# Altium footprint library J 接插件.PcbLib: 458 footprints (part 24 of 29)
Each footprint in its own frame and in the unit in brackets; x right, y up, seen from the top. Pads: shape width x height; smd on the part's side, far side on the other; paste and mask are expansions set on the pad; w line width, h text height; cw(c..) or ccw(c..) is an arc to the next point about the centre after c.
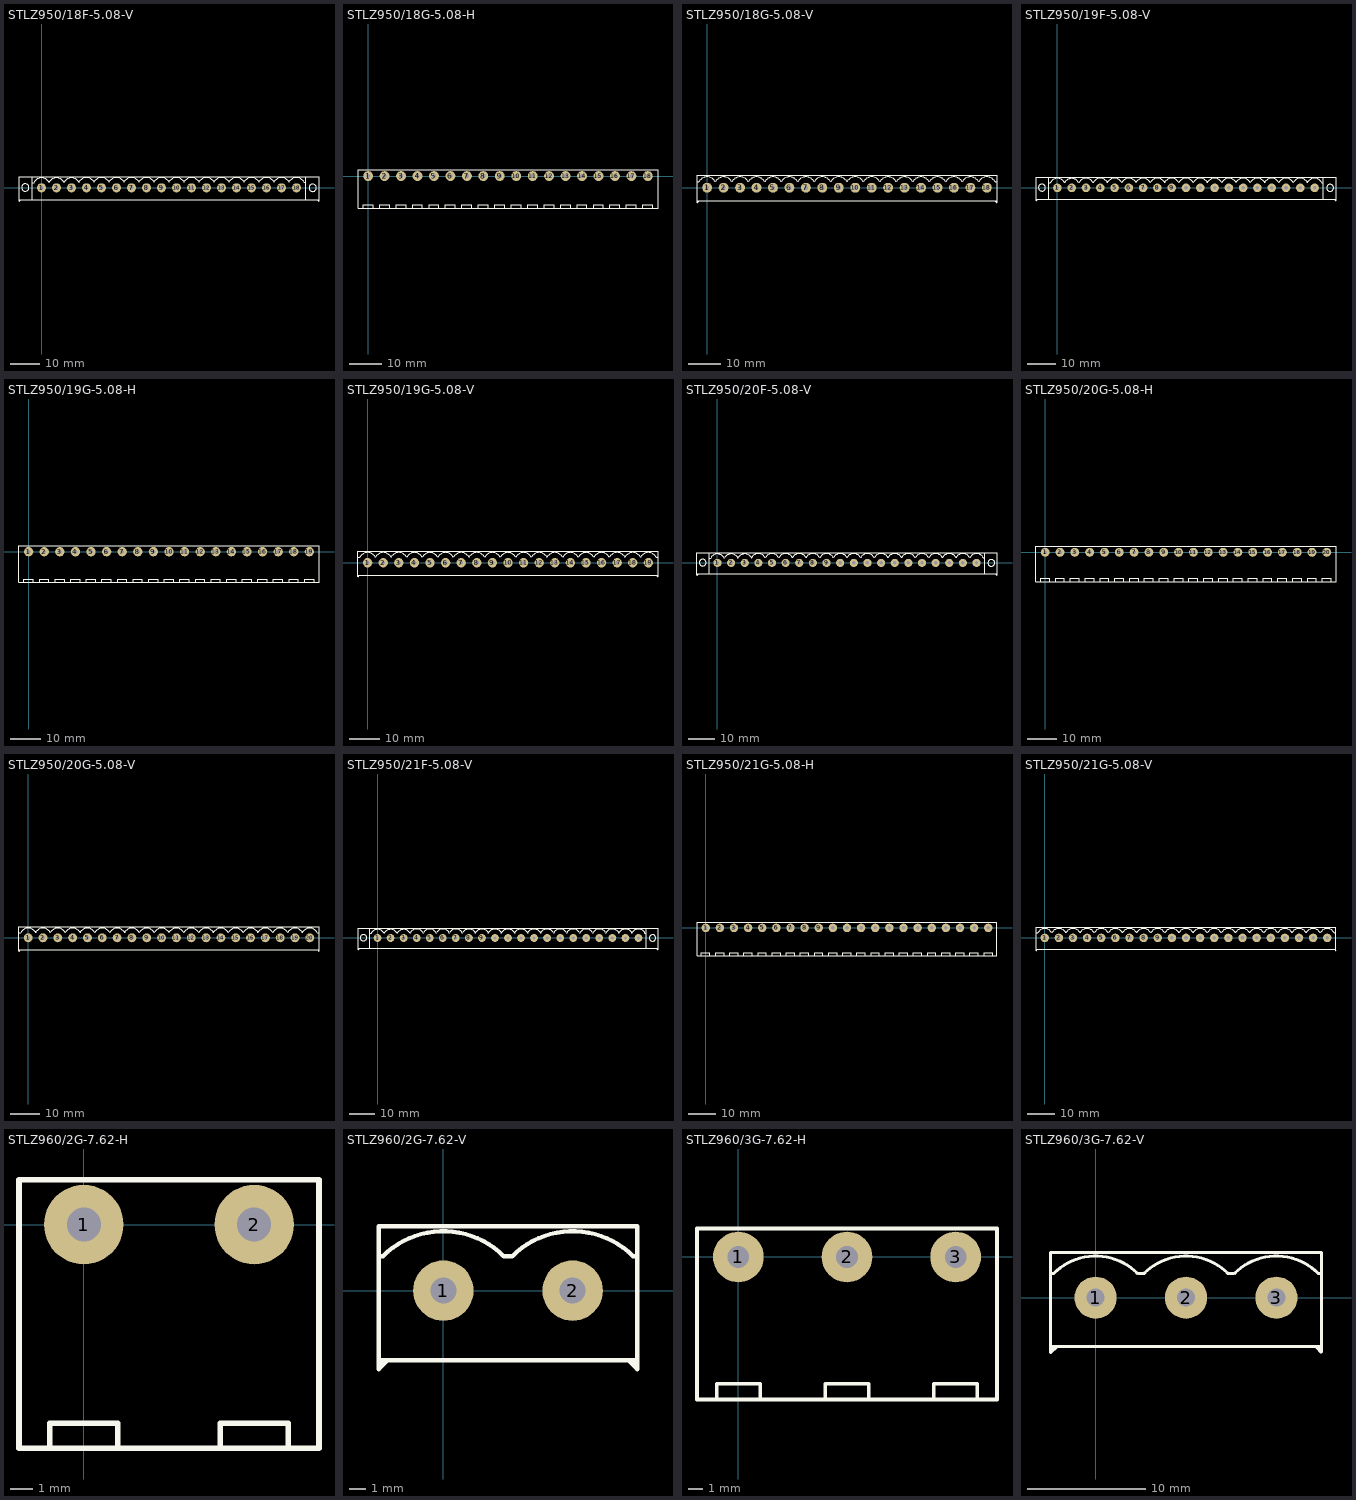
[diagram p23: the footprints below, top view; thin cyan lines are the x and y axes]

## STLZ950/18F-5.08-V [mil] "美卡诺 STLZ950 接触件座  间距：5.08   18Pin  带螺丝"
height 826.77
pads (18):
  round 120 hole 50: 1(0,0) 2(200,0) 3(400,0) 4(600,0) 5(800,0) 6(1000,0) 7(1200,0) 8(1400,0) 9(1600,0) 10(1800,0) 11(2000,0) 12(2200,0) 13(2400,0) 14(2600,0) 15(2800,0) 16(3000,0) 17(3200,0) 18(3400,0)
Top Overlay:
  circle w10: c-216.54,3.94 r49.21
  circle w10: c3616.54,0 r49.21
  lines w10: -300,-181.1 -300,149.61 3700,149.61 3700,-181.1 ; -300,-161.42 3700,-161.42 ; -299.21,-180.12 -281.99,-162.89 ; -293.31,-172.24 -293.31,-164.37 ; -123.62,-161.42 -123.62,149.61 ; -120,70 -100,70 cw(c0,20) 100,70 cw(c200,20) 300,70 cw(c400,20) 500,70 ; 500,75 cw(c600,25) 700,75 cw(c800,25) 900,75 cw(c1000,25) 1100,75 cw(c1200,25) 1300,75 cw(c1400,25) 1500,75 cw(c1600,25) 1700,75 cw(c1800,25) 1900,75 cw(c2000,25) 2100,75 cw(c2200,25) 2300,75 cw(c2400,25) 2500,75 cw(c2600,25) 2700,75 cw(c2800,25) 2900,75 cw(c3000,25) 3100,75 cw(c3200,25) 3300,75 cw(c3400,25) 3500,75 3520,75 ; 3523.62,-161.42 3523.62,149.61 ; 3682,-164 3699.22,-181.22 ; 3690,-165 3697.87,-165

## STLZ950/18G-5.08-H [mil] "美卡诺 STLZ950接触件座  间距：5.08  18Pin   弯角"
height 330.71
pads (18):
  round 120 hole 50: 1(0,0) 2(200,0) 3(400,0) 4(600,0) 5(800,0) 6(1000,0) 7(1200,0) 8(1400,0) 9(1600,0) 10(1800,0) 11(2000,0) 12(2200,0) 13(2400,0) 14(2600,0) 15(2800,0) 16(3000,0) 17(3200,0) 18(3400,0)
Top Overlay:
  lines w10: -60,-390 -60,-350 60,-350 60,-390 ; 140,-390 140,-350 260,-350 260,-390 ; 340,-390 340,-350 460,-350 460,-390 ; 540,-390 540,-350 660,-350 660,-390 ; 740,-390 740,-350 860,-350 860,-390 ; 940,-390 940,-350 1060,-350 1060,-390 ; 1140,-390 1140,-350 1260,-350 1260,-390 ; 1340,-390 1340,-350 1460,-350 1460,-390 ; 1540,-390 1540,-350 1660,-350 1660,-390 ; 1740,-390 1740,-350 1860,-350 1860,-390 ; 1940,-390 1940,-350 2060,-350 2060,-390 ; 2140,-390 2140,-350 2260,-350 2260,-390 ; 2340,-390 2340,-350 2460,-350 ; 2540,-390 2540,-350 2660,-350 2660,-390 ; 2740,-390 2740,-350 2860,-350 2860,-390 ; 2940,-390 2940,-350 3060,-350 3060,-390 ; 3140,-390 3140,-350 3260,-350 3260,-390 ; 3340,-390 3340,-350 3460,-350 3460,-390 ; 2460,-350 2460,-390 2460,-350 ; -123.62,-393.7 3523.62,-393.7 3523.62,78.74 -123.62,78.74 -123.62,-393.7

## STLZ950/18G-5.08-V [mil] "美卡诺 STLZ950 接触件座  间距：5.08   18Pin"
height 826.77
pads (18):
  round 120 hole 50: 1(0,0) 2(200,0) 3(400,0) 4(600,0) 5(800,0) 6(1000,0) 7(1200,0) 8(1400,0) 9(1600,0) 10(1800,0) 11(2000,0) 12(2200,0) 13(2400,0) 14(2600,0) 15(2800,0) 16(3000,0) 17(3200,0) 18(3400,0)
Top Overlay:
  lines w10: -123.62,-181.1 -123.62,149.61 3523.62,149.61 3523.62,-181.1 ; -123.62,-161.42 3523.62,-161.42 ; -122.05,-180.12 -104.82,-162.89 ; -120,70 -100,70 cw(c0,20) 100,70 cw(c200,20) 300,70 cw(c400,20) 500,70 cw(c600,20) 700,70 cw(c800,20) 900,70 cw(c1000,20) 1100,70 cw(c1200,20) 1300,70 cw(c1400,20) 1500,70 cw(c1600,20) 1700,70 cw(c1800,20) 1900,70 cw(c2000,20) 2100,70 cw(c2200,20) 2300,70 cw(c2400,20) 2500,70 cw(c2600,20) 2700,70 cw(c2800,20) 2900,70 cw(c3000,20) 3100,70 cw(c3200,20) 3300,70 cw(c3400,20) 3500,70 3520,70 ; -116.14,-172.24 -116.14,-164.37 ; 3503.64,-161.91 3522.83,-181.1 ; 3517.91,-171.26 3517.91,-162.4

## STLZ950/19F-5.08-V [mil] "美卡诺 STLZ950 接触件座  间距：5.08   19Pin  带螺丝"
height 826.77
pads (19):
  round 120 hole 50: 1(0,0) 2(200,0) 3(400,0) 4(600,0) 5(800,0) 6(1000,0) 7(1200,0) 8(1400,0) 9(1600,0) 10(1800,0) 11(2000,0) 12(2200,0) 13(2400,0) 14(2600,0) 15(2800,0) 16(3000,0) 17(3200,0) 18(3400,0) 19(3600,0)
Top Overlay:
  circle w10: c-216.54,3.94 r49.21
  circle w10: c3816.54,0 r49.21
  lines w10: -300,-181.1 -300,149.61 3900,149.61 3900,-181.1 ; -300,-161.42 3900,-161.42 ; -299.21,-180.12 -281.99,-162.89 ; -293.31,-172.24 -293.31,-164.37 ; -123.62,-161.42 -123.62,149.61 ; -120,70 -100,70 cw(c0,20) 100,70 cw(c200,20) 300,70 cw(c400,20) 500,70 ; 500,75 cw(c600,25) 700,75 cw(c800,25) 900,75 cw(c1000,25) 1100,75 cw(c1200,25) 1300,75 cw(c1400,25) 1500,75 cw(c1600,25) 1700,75 cw(c1800,25) 1900,75 cw(c2000,25) 2100,75 cw(c2200,25) 2300,75 cw(c2400,25) 2500,75 cw(c2600,25) 2700,75 cw(c2800,25) 2900,75 cw(c3000,25) 3100,75 cw(c3200,25) 3300,75 cw(c3400,25) 3500,75 cw(c3600,25) 3700,75 3720,75 ; 3723.62,-161.42 3723.62,149.61 ; 3882,-164 3899.22,-181.22 ; 3890,-165 3897.87,-165

## STLZ950/19G-5.08-H [mil] "美卡诺 STLZ950接触件座  间距：5.08  19Pin   弯角"
height 330.71
pads (19):
  round 120 hole 50: 1(0,0) 2(200,0) 3(400,0) 4(600,0) 5(800,0) 6(1000,0) 7(1200,0) 8(1400,0) 9(1600,0) 10(1800,0) 11(2000,0) 12(2200,0) 13(2400,0) 14(2600,0) 15(2800,0) 16(3000,0) 17(3200,0) 18(3400,0) 19(3600,0)
Top Overlay:
  lines w10: -60,-390 -60,-350 60,-350 60,-390 ; 140,-390 140,-350 260,-350 260,-390 ; 340,-390 340,-350 460,-350 460,-390 ; 540,-390 540,-350 660,-350 660,-390 ; 740,-390 740,-350 860,-350 860,-390 ; 940,-390 940,-350 1060,-350 1060,-390 ; 1140,-390 1140,-350 1260,-350 1260,-390 ; 1340,-390 1340,-350 1460,-350 1460,-390 ; 1540,-390 1540,-350 1660,-350 1660,-390 ; 1740,-390 1740,-350 1860,-350 1860,-390 ; 1940,-390 1940,-350 2060,-350 2060,-390 ; 2140,-390 2140,-350 2260,-350 2260,-390 ; 2340,-390 2340,-350 2460,-350 ; 2540,-390 2540,-350 2660,-350 2660,-390 ; 2740,-390 2740,-350 2860,-350 2860,-390 ; 2940,-390 2940,-350 3060,-350 3060,-390 ; 3140,-390 3140,-350 3260,-350 3260,-390 ; 3340,-390 3340,-350 3460,-350 3460,-390 ; 3540,-390 3540,-350 3660,-350 3660,-390 ; 2460,-350 2460,-390 2460,-350 ; -123.62,-393.7 -123.62,78.74 3723.62,78.74 3723.62,-393.7 -123.62,-393.7

## STLZ950/19G-5.08-V [mil] "美卡诺 STLZ950 接触件座  间距：5.08   19Pin"
height 826.77
pads (19):
  round 120 hole 50: 1(0,0) 2(200,0) 3(400,0) 4(600,0) 5(800,0) 6(1000,0) 7(1200,0) 8(1400,0) 9(1600,0) 10(1800,0) 11(2000,0) 12(2200,0) 13(2400,0) 14(2600,0) 15(2800,0) 16(3000,0) 17(3200,0) 18(3400,0) 19(3600,0)
Top Overlay:
  lines w10: -123.62,-181.1 -123.62,149.61 3723.62,149.61 3723.62,-181.1 ; -123.62,-161.42 3723.62,-161.42 ; -122.05,-180.12 -104.82,-162.89 ; -120,70 -100,70 cw(c0,20) 100,70 cw(c200,20) 300,70 cw(c400,20) 500,70 cw(c600,20) 700,70 cw(c800,20) 900,70 cw(c1000,20) 1100,70 cw(c1200,20) 1300,70 cw(c1400,20) 1500,70 cw(c1600,20) 1700,70 cw(c1800,20) 1900,70 cw(c2000,20) 2100,70 cw(c2200,20) 2300,70 cw(c2400,20) 2500,70 cw(c2600,20) 2700,70 cw(c2800,20) 2900,70 cw(c3000,20) 3100,70 cw(c3200,20) 3300,70 cw(c3400,20) 3500,70 cw(c3600,20) 3700,70 3720,70 ; -116.14,-172.24 -116.14,-164.37 ; 3703.64,-161.91 3722.83,-181.1 ; 3717.91,-171.26 3717.91,-162.4

## STLZ950/20F-5.08-V [mil] "美卡诺 STLZ950 接触件座  间距：5.08   20Pin  带螺丝"
height 826.77
pads (20):
  round 120 hole 50: 1(0,0) 2(200,0) 3(400,0) 4(600,0) 5(800,0) 6(1000,0) 7(1200,0) 8(1400,0) 9(1600,0) 10(1800,0) 11(2000,0) 12(2200,0) 13(2400,0) 14(2600,0) 15(2800,0) 16(3000,0) 17(3200,0) 18(3400,0) 19(3600,0) 20(3800,0)
Top Overlay:
  circle w10: c4016.54,0 r49.21
  circle w10: c-216.54,3.94 r49.21
  lines w10: -300,-181.1 -300,149.61 4100,149.61 4100,-181.1 ; -300,-161.42 4100,-161.42 ; -299.21,-180.12 -281.99,-162.89 ; -293.31,-172.24 -293.31,-164.37 ; -123.62,-161.42 -123.62,149.61 ; -120,70 -100,70 cw(c0,20) 100,70 cw(c200,20) 300,70 cw(c400,20) 500,70 ; 500,75 cw(c600,25) 700,75 cw(c800,25) 900,75 cw(c1000,25) 1100,75 cw(c1200,25) 1300,75 cw(c1400,25) 1500,75 cw(c1600,25) 1700,75 cw(c1800,25) 1900,75 cw(c2000,25) 2100,75 cw(c2200,25) 2300,75 cw(c2400,25) 2500,75 cw(c2600,25) 2700,75 cw(c2800,25) 2900,75 cw(c3000,25) 3100,75 cw(c3200,25) 3300,75 cw(c3400,25) 3500,75 cw(c3600,25) 3700,75 cw(c3800,25) 3900,75 3920,75 ; 3923.62,-161.42 3923.62,149.61 ; 4082,-164 4099.22,-181.22 ; 4090,-165 4097.87,-165

## STLZ950/20G-5.08-H [mil] "美卡诺 STLZ950接触件座  间距：5.08  20Pin   弯角"
height 330.71
pads (20):
  round 120 hole 50: 1(0,0) 2(200,0) 3(400,0) 4(600,0) 5(800,0) 6(1000,0) 7(1200,0) 8(1400,0) 9(1600,0) 10(1800,0) 11(2000,0) 12(2200,0) 13(2400,0) 14(2600,0) 15(2800,0) 16(3000,0) 17(3200,0) 18(3400,0) 19(3600,0) 20(3800,0)
Top Overlay:
  lines w10: -60,-390 -60,-350 60,-350 60,-390 ; 140,-390 140,-350 260,-350 260,-390 ; 340,-390 340,-350 460,-350 460,-390 ; 540,-390 540,-350 660,-350 660,-390 ; 740,-390 740,-350 860,-350 860,-390 ; 940,-390 940,-350 1060,-350 1060,-390 ; 1140,-390 1140,-350 1260,-350 1260,-390 ; 1340,-390 1340,-350 1460,-350 1460,-390 ; 1540,-390 1540,-350 1660,-350 1660,-390 ; 1740,-390 1740,-350 1860,-350 1860,-390 ; 1940,-390 1940,-350 2060,-350 2060,-390 ; 2140,-390 2140,-350 2260,-350 2260,-390 ; 2340,-390 2340,-350 2460,-350 ; 2540,-390 2540,-350 2660,-350 2660,-390 ; 2740,-390 2740,-350 2860,-350 2860,-390 ; 2940,-390 2940,-350 3060,-350 3060,-390 ; 3140,-390 3140,-350 3260,-350 3260,-390 ; 3340,-390 3340,-350 3460,-350 3460,-390 ; 3540,-390 3540,-350 3660,-350 3660,-390 ; 3740,-390 3740,-350 3860,-350 3860,-390 ; 2460,-350 2460,-390 2460,-350 ; -123.62,-393.7 3923.62,-393.7 3923.62,78.74 -123.62,78.74 -123.62,-393.7

## STLZ950/20G-5.08-V [mil] "美卡诺 STLZ950 接触件座  间距：5.08   20Pin"
height 826.77
pads (20):
  round 120 hole 50: 1(0,0) 2(200,0) 3(400,0) 4(600,0) 5(800,0) 6(1000,0) 7(1200,0) 8(1400,0) 9(1600,0) 10(1800,0) 11(2000,0) 12(2200,0) 13(2400,0) 14(2600,0) 15(2800,0) 16(3000,0) 17(3200,0) 18(3400,0) 19(3600,0) 20(3800,0)
Top Overlay:
  lines w10: -123.62,-181.1 -123.62,149.61 3923.62,149.61 3923.62,-181.1 ; -123.62,-161.42 3923.62,-161.42 ; -122.05,-180.12 -104.82,-162.89 ; -120,70 -100,70 cw(c0,20) 100,70 cw(c200,20) 300,70 cw(c400,20) 500,70 cw(c600,20) 700,70 cw(c800,20) 900,70 cw(c1000,20) 1100,70 cw(c1200,20) 1300,70 cw(c1400,20) 1500,70 cw(c1600,20) 1700,70 cw(c1800,20) 1900,70 cw(c2000,20) 2100,70 cw(c2200,20) 2300,70 cw(c2400,20) 2500,70 cw(c2600,20) 2700,70 cw(c2800,20) 2900,70 cw(c3000,20) 3100,70 cw(c3200,20) 3300,70 cw(c3400,20) 3500,70 cw(c3600,20) 3700,70 cw(c3800,20) 3900,70 3920,70 ; -116.14,-172.24 -116.14,-164.37 ; 3903.64,-161.91 3922.83,-181.1 ; 3917.91,-171.26 3917.91,-162.4

## STLZ950/21F-5.08-V [mil] "美卡诺 STLZ950 接触件座  间距：5.08   21Pin  带螺丝"
height 826.77
pads (21):
  round 120 hole 50: 1(0,0) 2(200,0) 3(400,0) 4(600,0) 5(800,0) 6(1000,0) 7(1200,0) 8(1400,0) 9(1600,0) 10(1800,0) 11(2000,0) 12(2200,0) 13(2400,0) 14(2600,0) 15(2800,0) 16(3000,0) 17(3200,0) 18(3400,0) 19(3600,0) 20(3800,0) 21(4000,0)
Top Overlay:
  circle w10: c-216.54,3.94 r49.21
  circle w10: c4216.54,0 r49.21
  lines w10: -300,-181.1 -300,149.61 4300,149.61 4300,-181.1 ; -300,-161.42 4300,-161.42 ; -299.21,-180.12 -281.99,-162.89 ; -293.31,-172.24 -293.31,-164.37 ; -123.62,-161.42 -123.62,149.61 ; -120,70 -100,70 cw(c0,20) 100,70 cw(c200,20) 300,70 cw(c400,20) 500,70 ; 500,75 cw(c600,25) 700,75 cw(c800,25) 900,75 cw(c1000,25) 1100,75 cw(c1200,25) 1300,75 cw(c1400,25) 1500,75 cw(c1600,25) 1700,75 cw(c1800,25) 1900,75 cw(c2000,25) 2100,75 cw(c2200,25) 2300,75 cw(c2400,25) 2500,75 cw(c2600,25) 2700,75 cw(c2800,25) 2900,75 cw(c3000,25) 3100,75 cw(c3200,25) 3300,75 cw(c3400,25) 3500,75 cw(c3600,25) 3700,75 cw(c3800,25) 3900,75 cw(c4000,25) 4100,75 4120,75 ; 4123.62,-161.42 4123.62,149.61 ; 4282,-164 4299.22,-181.22 ; 4290,-165 4297.87,-165

## STLZ950/21G-5.08-H [mil] "美卡诺 STLZ950接触件座  间距：5.08  21Pin   弯角"
height 330.71
pads (21):
  round 120 hole 50: 1(0,0) 2(200,0) 3(400,0) 4(600,0) 5(800,0) 6(1000,0) 7(1200,0) 8(1400,0) 9(1600,0) 10(1800,0) 11(2000,0) 12(2200,0) 13(2400,0) 14(2600,0) 15(2800,0) 16(3000,0) 17(3200,0) 18(3400,0) 19(3600,0) 20(3800,0) 21(4000,0)
Top Overlay:
  lines w10: -60,-390 -60,-350 60,-350 60,-390 ; 140,-390 140,-350 260,-350 260,-390 ; 340,-390 340,-350 460,-350 460,-390 ; 540,-390 540,-350 660,-350 660,-390 ; 740,-390 740,-350 860,-350 860,-390 ; 940,-390 940,-350 1060,-350 1060,-390 ; 1140,-390 1140,-350 1260,-350 1260,-390 ; 1340,-390 1340,-350 1460,-350 1460,-390 ; 1540,-390 1540,-350 1660,-350 1660,-390 ; 1740,-390 1740,-350 1860,-350 1860,-390 ; 1940,-390 1940,-350 2060,-350 2060,-390 ; 2140,-390 2140,-350 2260,-350 2260,-390 ; 2340,-390 2340,-350 2460,-350 ; 2540,-390 2540,-350 2660,-350 2660,-390 ; 2740,-390 2740,-350 2860,-350 2860,-390 ; 2940,-390 2940,-350 3060,-350 3060,-390 ; 3140,-390 3140,-350 3260,-350 3260,-390 ; 3340,-390 3340,-350 3460,-350 3460,-390 ; 3540,-390 3540,-350 3660,-350 3660,-390 ; 3740,-390 3740,-350 3860,-350 3860,-390 ; 3940,-390 3940,-350 4060,-350 4060,-390 ; 2460,-350 2460,-390 2460,-350 ; -123.62,-393.7 -123.62,78.74 4123.62,78.74 4123.62,-393.7 -123.62,-393.7

## STLZ950/21G-5.08-V [mil] "美卡诺 STLZ950 接触件座  间距：5.08   21Pin"
height 826.77
pads (21):
  round 120 hole 50: 1(0,0) 2(200,0) 3(400,0) 4(600,0) 5(800,0) 6(1000,0) 7(1200,0) 8(1400,0) 9(1600,0) 10(1800,0) 11(2000,0) 12(2200,0) 13(2400,0) 14(2600,0) 15(2800,0) 16(3000,0) 17(3200,0) 18(3400,0) 19(3600,0) 20(3800,0) 21(4000,0)
Top Overlay:
  lines w10: -123.62,-181.1 -123.62,149.61 4123.62,149.61 4123.62,-181.1 ; -123.62,-161.42 4123.62,-161.42 ; -122.05,-180.12 -104.82,-162.89 ; -120,70 -100,70 cw(c0,20) 100,70 cw(c200,20) 300,70 cw(c400,20) 500,70 cw(c600,20) 700,70 cw(c800,20) 900,70 cw(c1000,20) 1100,70 cw(c1200,20) 1300,70 cw(c1400,20) 1500,70 cw(c1600,20) 1700,70 cw(c1800,20) 1900,70 cw(c2000,20) 2100,70 cw(c2200,20) 2300,70 cw(c2400,20) 2500,70 cw(c2600,20) 2700,70 cw(c2800,20) 2900,70 cw(c3000,20) 3100,70 cw(c3200,20) 3300,70 cw(c3400,20) 3500,70 cw(c3600,20) 3700,70 cw(c3800,20) 3900,70 cw(c4000,20) 4100,70 4120,70 ; -116.14,-172.24 -116.14,-164.37 ; 4103.64,-161.91 4122.83,-181.1 ; 4117.91,-171.26 4117.91,-162.4

## STLZ960/2G-7.62-H [mil] "美卡诺 STLZ960 接触件座  间距：7.62   2Pin   弯角"
height 330.71
pads (2):
  round 140 hole 60: 1(0,0) 2(300,0)
Top Overlay:
  lines w10: -60,-390 -60,-350 60,-350 60,-390 ; 240,-390 240,-350 360,-350 360,-390 ; -114.17,-393.7 -114.17,78.74 414.17,78.74 414.17,-393.7 -114.17,-393.7

## STLZ960/2G-7.62-V [mil] "美卡诺 STLZ960 接触件座  间距：7.62   2Pin"
height 826.77
pads (2):
  round 140 hole 60: 1(0,0) 2(300,0)
Top Overlay:
  lines w10: -150,-181.1 -150,149.61 450,149.61 450,-181.1 ; -150,-161.42 450,-161.42 ; -149.61,-182.09 -129.61,-162.09 ; -149.61,80 -140,80 cw(c0,-60) 140,80 160,80 cw(c300,-60) 440,80 448.82,80 ; -142.72,-174.21 -142.72,-164.37 ; 432.09,-164.37 449.8,-182.09 ; 443.9,-172.24 443.9,-164.37

## STLZ960/3G-7.62-H [mil] "美卡诺 STLZ960 接触件座  间距：7.62   3Pin   弯角"
height 330.71
pads (3):
  round 140 hole 60: 1(0,0) 2(300,0) 3(600,0)
Top Overlay:
  lines w10: -60,-390 -60,-350 60,-350 60,-390 ; 240,-390 240,-350 360,-350 360,-390 ; 540,-390 540,-350 660,-350 660,-390 ; -114.17,-393.7 -114.17,78.74 714.17,78.74 714.17,-393.7 -114.17,-393.7

## STLZ960/3G-7.62-V [mil] "美卡诺 STLZ960 接触件座  间距：7.62   3Pin"
height 826.77
pads (3):
  round 140 hole 60: 1(0,0) 2(300,0) 3(600,0)
Top Overlay:
  lines w10: -150,-181.1 -150,149.61 750,149.61 750,-181.1 ; -150,-161.42 750,-161.42 ; -149.61,-182.09 -149.61,-181.1 ; -149.61,80 -140,80 cw(c0,-60) 140,80 160,80 cw(c300,-60) 440,80 ; -148.62,-182.09 -130.91,-164.37 ; -142.72,-173.23 -142.72,-163.39 ; 448.82,80 440,80 ; 733.27,-165.35 749.02,-181.1 ; 743.11,-170.28 743.11,-162.4 ; 748.82,80 740,80 ccw(c600,-60) 460,80 440,80